# Altium schematic symbol library MSP430.SchLib: 2 symbols
Pins are listed as number, name and electrical type; pins without a type are passive.

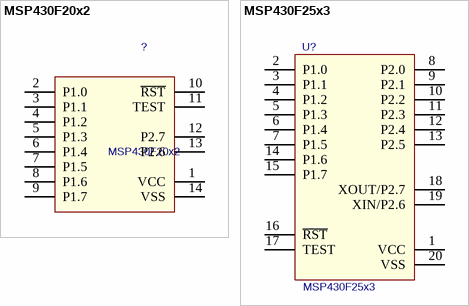
[diagram p0: symbols MSP430F20x2 to MSP430F25x3]

## MSP430F20x2
designator ?
Value: *
footprint PW014 (Shrink Small Outline; 14 Leads; Body Width 4.4 mm; Pitch 0.65 mm)
pins: 1 VCC (power), 2 P1.0, 3 P1.1, 4 P1.2, 5 P1.3, 6 P1.4, 7 P1.5, 8 P1.6, 9 P1.7, 10 ~{RST}, 11 TEST, 12 P2.7, 13 P2.6, 14 VSS (power)

## MSP430F25x3
designator U?
Value: *
footprint PW020_N (TSOP, 20-Leads, Body 6.5x4.4mm, Pitch 0.65mm, IPC Medium Density)
pins: 1 VCC (power), 2 P1.0, 3 P1.1, 4 P1.2, 5 P1.3, 6 P1.4, 7 P1.5, 8 P2.0, 9 P2.1, 10 P2.2, 11 P2.3, 12 P2.4, 13 P2.5, 14 P1.6, 15 P1.7, 16 ~{RST}, 17 TEST, 18 XOUT/P2.7, 19 XIN/P2.6, 20 VSS (power)